# Altium integrated library P7803-2000R-S.IntLib: 1 symbol
Pins are listed as number, name and electrical type; pins without a type are passive.

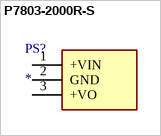
[diagram p0: symbol P7803-2000R-S]

## P7803-2000R-S
designator PS?
Power Supply; Manufacturer_Name: CUI Inc.; Manufacturer_Part_Number: P7803-2000R-S; Datasheet Link: https://www.cui.com/product/resource/p78-2000r-s.pdf; Height: 9.5mm
footprint P78032000RS
pins: 1 +VIN, 2 GND, 3 +VO